# Altium schematic symbol library smd_generator.SchLib: 1 symbol
Pins are listed as number, name and electrical type; pins without a type are passive.

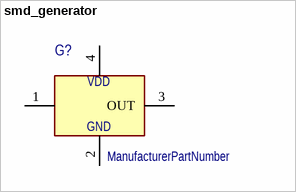
[diagram p0: symbol smd_generator]

## smd_generator
designator G?  (value not drawn)
ManufacturerPartNumber: ManufacturerPartNumber
pins: 1 E, 2 GND, 3 OUT, 4 VDD